# Altium integrated library References.IntLib: 8 symbols
Pins are listed as number, name and electrical type; pins without a type are passive.

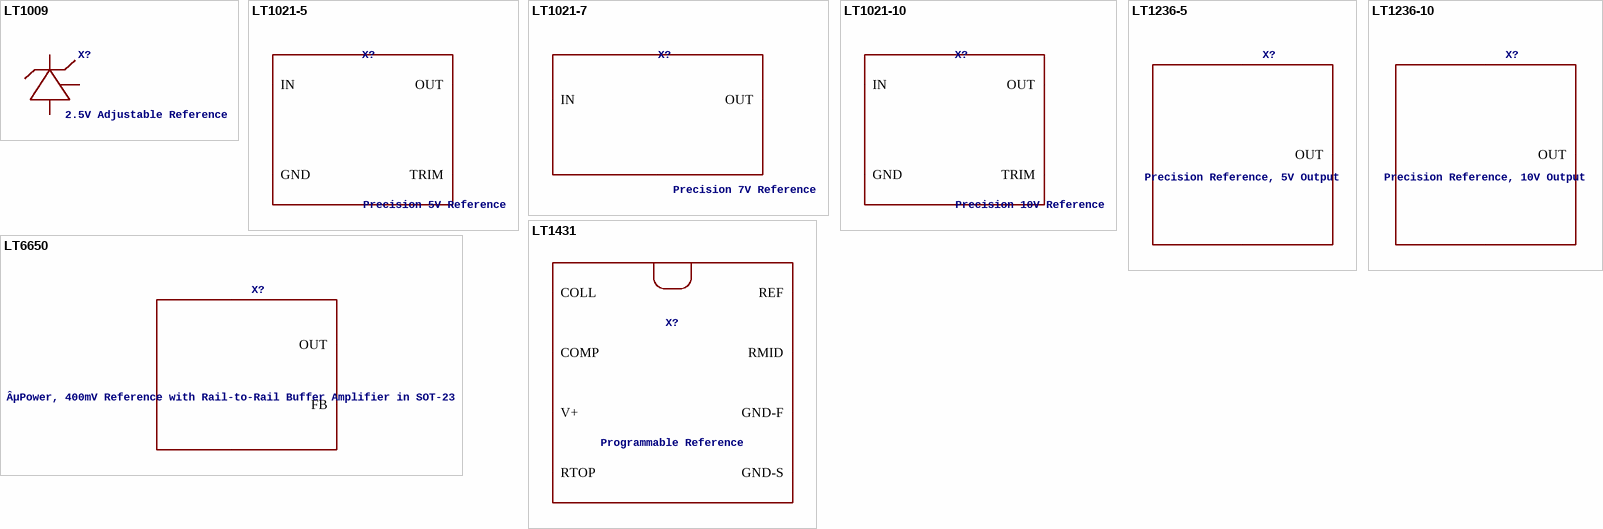
[diagram p0: symbols LT1009 to LT6650]

## LT1009
designator X?, comment 2.5V Adjustable Reference
VALUE2: LT1009; SPICEMODEL: LTC3.lib
pins: ?1 VCC, ?2 VEE, ?3 ADJ

## LT1021-5
designator X?, comment Precision 5V Reference
VALUE2: LT1021-5; SPICEMODEL: LTC3.lib
pins: ?1 IN, ?2 GND, ?3 OUT, ?4 TRIM

## LT1021-7
designator X?, comment Precision 7V Reference
VALUE2: LT1021-7; SPICEMODEL: LTC3.lib
pins: ?1 IN, ?2 GND, ?3 OUT

## LT1021-10
designator X?, comment Precision 10V Reference
VALUE2: LT1021-10; SPICEMODEL: LTC3.lib
pins: ?1 IN, ?2 GND, ?3 OUT, ?4 TRIM

## LT1236-5
designator X?, comment Precision Reference, 5V Output
VALUE2: LT1236-5; SPICEMODEL: LTC4.lib
pins: ?1 IN, ?2 GND, ?3 OUT

## LT1236-10
designator X?, comment Precision Reference, 10V Output
VALUE2: LT1236-10; SPICEMODEL: LTC4.lib
pins: ?1 IN, ?2 GND, ?3 OUT

## LT1431
designator X?, comment Programmable Reference
VALUE2: LT1431; SPICEMODEL: LT1431.sub
pins: ?1 COLL, ?2 COMP, ?3 V+, ?4 RTOP, ?5 GND-S, ?6 GND-F, ?7 RMID, ?8 REF

## LT6650
designator X?, comment ÂµPower, 400mV Reference with Rail-to-Rail Buffer Amplifier in SOT-23
VALUE2: LT6650; SPICEMODEL: LTC1.lib
pins: ?1 IN, ?2 GND, ?3 OUT, ?4 FB